# EAGLE library part AVR_MINI_ISP (library Custom_old)
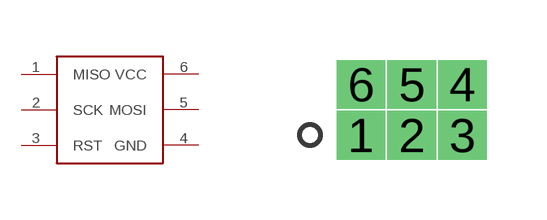
[diagram p17: symbol with the pads of 3X2_0.05IN; footprint 3X2_0.05IN]

Designator prefix -

## AVR_MINI_ISP  [3X2_0.05IN]
1  MISO
2  SCK
3  RST
4  GND
5  MOSI
6  VCC

## Footprint 3X2_0.05IN (pad centres in mm)
drill 0.711 pad 1.016 square: 1 0,0; 2 1.27,0; 3 2.54,0; 4 2.54,1.27; 5 1.27,1.27; 6 0,1.27